# EAGLE library part DISP_LCD_3.5IN_320X480_50PIN (library pimoroni-misc)
DT350HV15-T - 3.5" 320x480 TFT Display, 50 Pin Connector
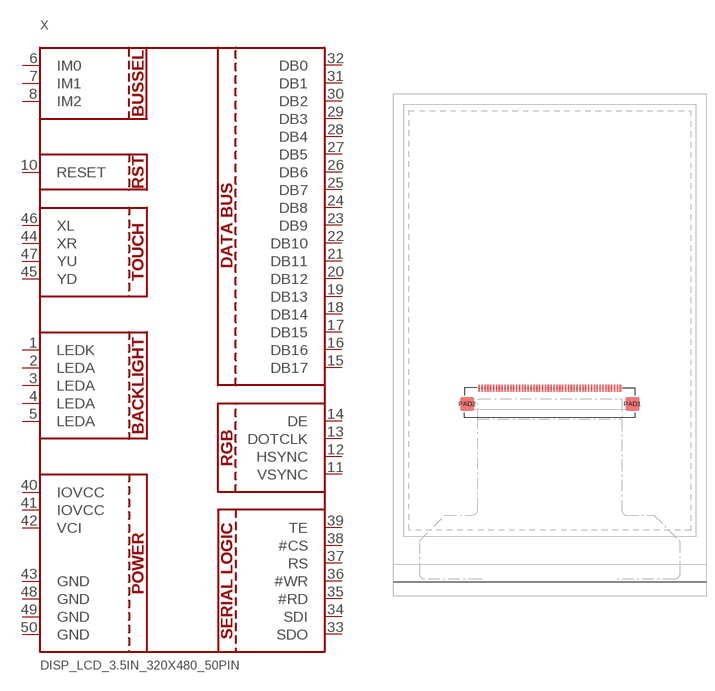
[diagram p1: symbol with the pads of TFT_3.5IN_320X480_50PIN; footprint TFT_3.5IN_320X480_50PIN]

Designator prefix X

## DISP_LCD_3.5IN_320X480_50PIN  [TFT_3.5IN_320X480_50PIN]
1  LEDK
2  LEDA
3  LEDA
4  LEDA
5  LEDA
6  IM0
7  IM1
8  IM2
10  RESET
11  VSYNC
12  HSYNC
13  DOTCLK
14  DE
15  DB17
16  DB16
17  DB15
18  DB14
19  DB13
20  DB12
21  DB11
22  DB10
23  DB9
24  DB8
25  DB7
26  DB6
27  DB5
28  DB4
29  DB3
30  DB2
31  DB1
32  DB0
33  SDO
34  SDI
35  #RD
36  #WR
37  RS
38  #CS
39  TE
40  IOVCC
41  IOVCC
42  VCI
43  GND
44  XR
45  YD
46  XL
47  YU
48  GND
49  GND
50  GND

## Footprint TFT_3.5IN_320X480_50PIN (pad centres in mm)
smd 0.275 x 1.2: 1 12.25,-3.76; 2 11.75,-3.76; 3 11.25,-3.76; 4 10.75,-3.76; 5 10.25,-3.76; 6 9.75,-3.76; 7 9.25,-3.76; 8 8.75,-3.76; 9 8.25,-3.76; 10 7.75,-3.76; 11 7.25,-3.76; 12 6.75,-3.76; 13 6.25,-3.76; 14 5.75,-3.76; 15 5.25,-3.76; 16 4.75,-3.76; 17 4.25,-3.76; 18 3.75,-3.76; 19 3.25,-3.76; 20 2.75,-3.76; 21 2.25,-3.76; 22 1.75,-3.76; 23 1.25,-3.76; 24 0.75,-3.76; 25 0.25,-3.76; 26 -0.25,-3.76; 27 -0.75,-3.76; 28 -1.25,-3.76; 29 -1.75,-3.76; 30 -2.25,-3.76; 31 -2.75,-3.76; 32 -3.25,-3.76; 33 -3.75,-3.76; 34 -4.25,-3.76; 35 -4.75,-3.76; 36 -5.25,-3.76; 37 -5.75,-3.76; 38 -6.25,-3.76; 39 -6.75,-3.76; 40 -7.25,-3.76; 41 -7.75,-3.76; 42 -8.25,-3.76; 43 -8.75,-3.76; 44 -9.25,-3.76; 45 -9.75,-3.76; 46 -10.25,-3.76; 47 -10.75,-3.76; 48 -11.25,-3.76; 49 -11.75,-3.76; 50 -12.25,-3.76
smd 2.4 x 2.4: PAD1 14.35,-6.46; PAD2 -14.35,-6.46